# Altium schematic symbol library MCU GOST.SchLib: 21 symbols (part 2 of 2)
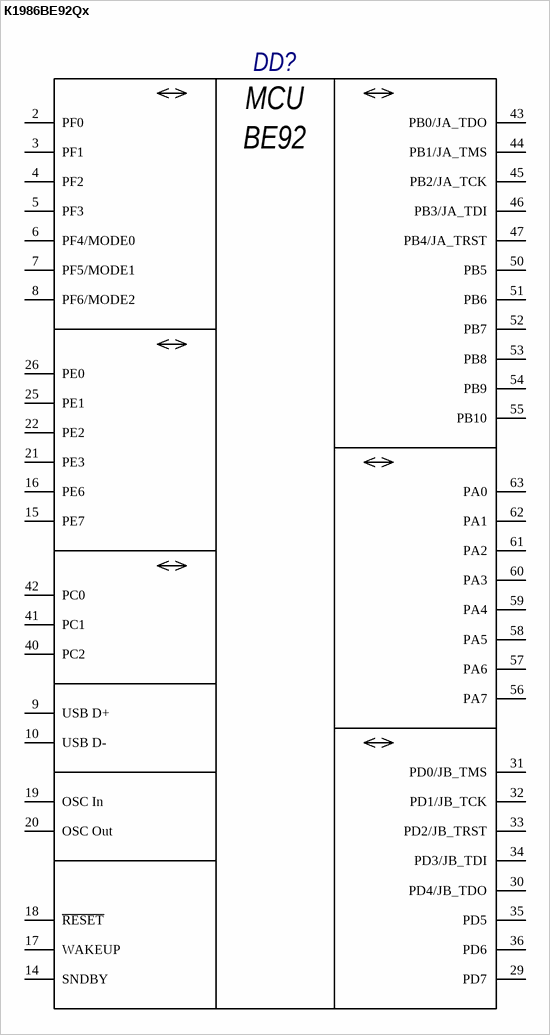
[diagram p9: symbol К1986ВЕ92Qx]

## К1986ВЕ92Qx
designator DD?
32-разрядный RISC микроконтроллер; Type: Микросхема; Published: 06.12.2013; Publisher: Andrew Danich
pins: 1 Vcc (power) hidden to +3.3В "Питание", 2 PF0, 3 PF1, 4 PF2, 5 PF3, 6 PF4/MODE0, 7 PF5/MODE1, 8 PF6/MODE2, 9 USB D+, 10 USB D-, 11 GND (power) hidden to Общ "Общий", 12 Vcc (power) hidden to +3.3В "Питание", 13 BVcc (power) hidden to +3.3В "Батарейное Питание", 14 SNDBY, 15 PE7, 16 PE6, 17 WAKEUP, 18 ~{RESET}, 19 OSC In, 20 OSC Out, 21 PE3, 22 PE2, 23 AGND1 (power) hidden to Общ "Общий АЦП", 24 AVcc (power) hidden to +3.3В "Аналоговое питание АЦП и ЦАП", 25 PE1, 26 PE0, 27 AGND (power) hidden to Общ "Общий АЦП", 28 AVcc1 (power) hidden to +3.3В "Аналоговое питание АЦП и ЦАП", 29 PD7, 30 PD4/JB_TDO, 31 PD0/JB_TMS, 32 PD1/JB_TCK, 33 PD2/JB_TRST, 34 PD3/JB_TDI, 35 PD5, 36 PD6, 38 Vcc (power) hidden to +3.3В "Питание", 39 GND (power) hidden to Общ "Общий", 40 PC2, 41 PC1, 42 PC0, 43 PB0/JA_TDO, 44 PB1/JA_TMS, 45 PB2/JA_TCK, 46 PB3/JA_TDI, 47 PB4/JA_TRST, 48 Vcc (power) hidden to +3.3В "Питание", 49 GND (power) hidden to Общ "Общий", 50 PB5, 51 PB6, 52 PB7, 53 PB8, 54 PB9, 55 PB10, 56 PA7, 57 PA6, 58 PA5, 59 PA4, 60 PA3, 61 PA2, 62 PA1, 63 PA0, 64 GND (power) hidden to Общ "Общий"
text: MCU; ВЕ92